# Altium schematic symbol library CL31B475KOHNNNE.SchLib: 1 symbol
Pins are listed as number, name and electrical type; pins without a type are passive.

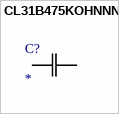
[diagram p0: symbol CL31B475KOHNNNE]

## CL31B475KOHNNNE
designator C?
No Description Available; Mfr_Name: Samsung
footprint CAP_CL31_SAM
pins: 1, 2